# EAGLE library part EXTENSION_PORT (library custom_lib)
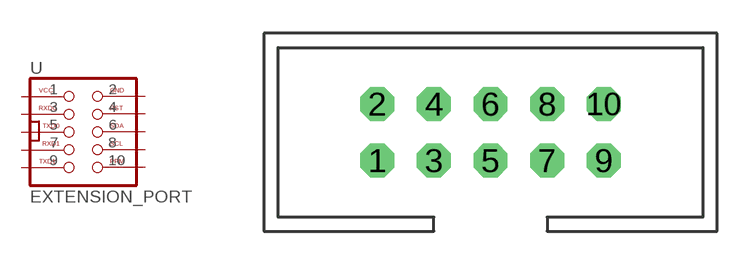
[diagram p4: symbol with the pads of 2X05; footprint 2X05]

Designator prefix -

## EXTENSION_PORT  [2X05]
1  VCC  pas
2  GND  pas
3  RXD0  pas
4  RST  pas
5  TXD0  pas
6  SDA  pas
7  RXD1  pas
8  SCL  pas
9  TXD1  pas
10  PPM  pas

## Footprint 2X05 (pad centres in mm)
PIN HEADER
drill 1.016 octagon: 1 -5.08,-1.27; 2 -5.08,1.27; 3 -2.54,-1.27; 4 -2.54,1.27; 5 0,-1.27; 6 0,1.27; 7 2.54,-1.27; 8 2.54,1.27; 9 5.08,-1.27; 10 5.08,1.27